# Altium schematic symbol library RF_Bluetooth.SchLib: 13 symbols
Pins are listed as number, name and electrical type; pins without a type are passive.

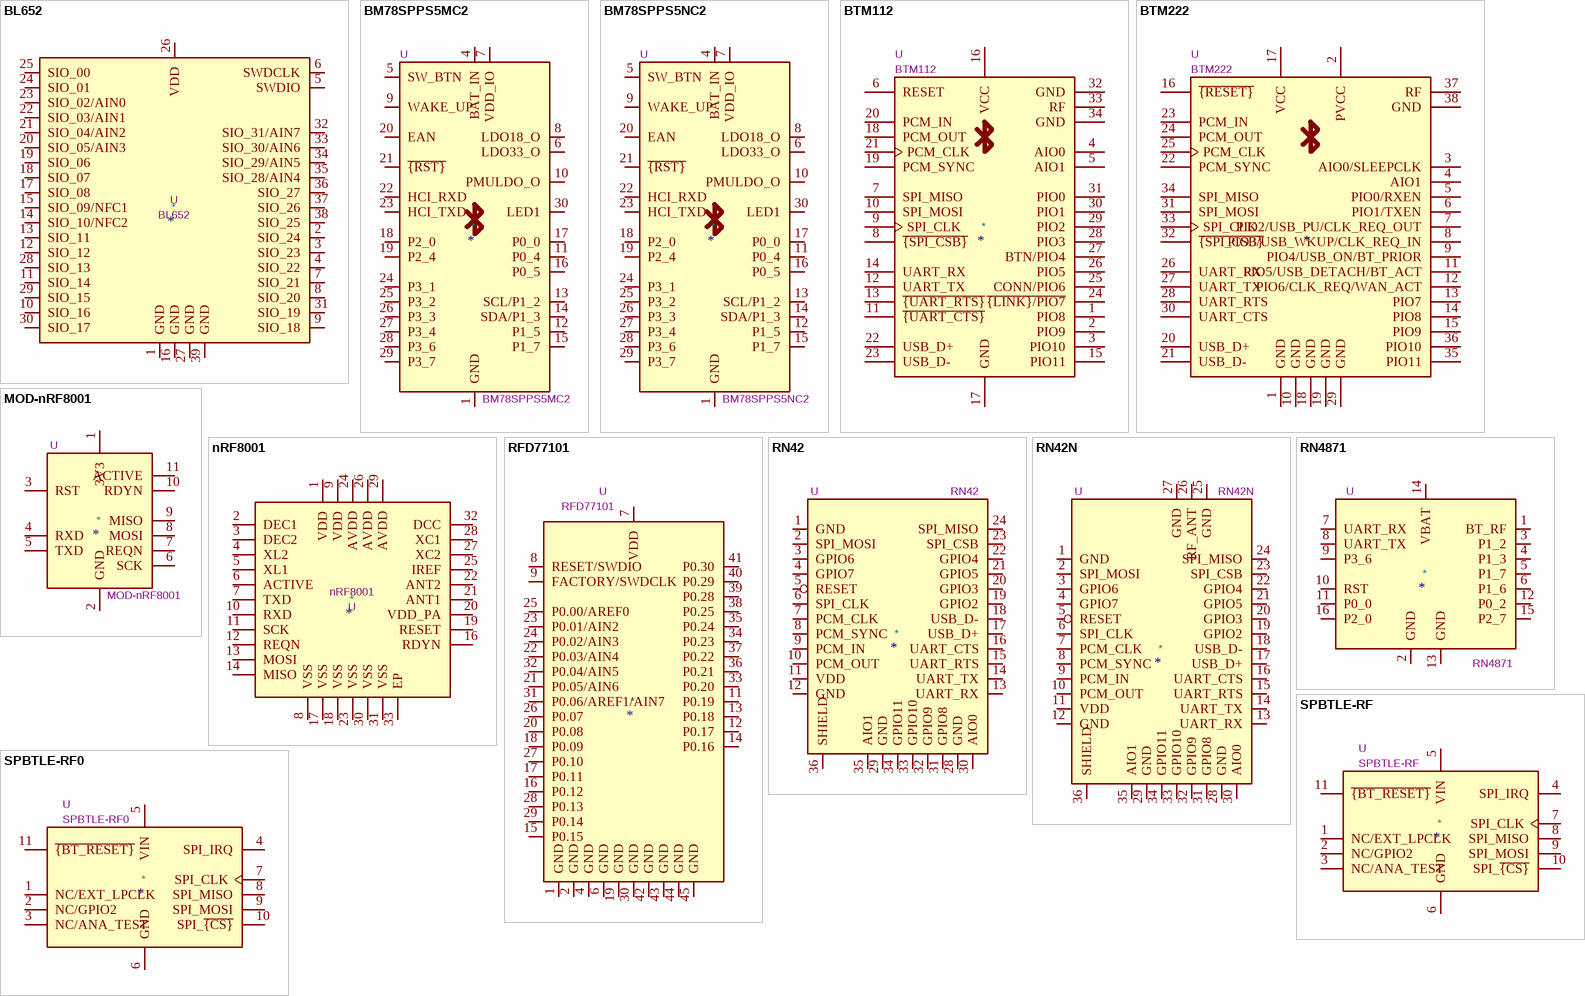
[diagram p0: symbols BL652 to SPBTLE-RF0]

## BL652
designator *  value BL652  Reference: U
ki_keywords: Bluetooth Nordic nRF52; ki_description: Bluetooth module; ki_fp_filters: Laird*BL652*; Footprint: RF_Module:Laird_BL652; Datasheet: http://cdn.lairdtech.com/home/brandworld/files/Datasheet%20-%20BL652.pdf
pins: 1 GND, 2 SIO_24, 3 SIO_23, 4 SIO_22, 5 SWDIO, 6 SWDCLK, 7 SIO_21, 8 SIO_20, 9 SIO_18, 10 SIO_16, 11 SIO_14, 12 SIO_12, 13 SIO_11, 14 SIO_10/NFC2, 15 SIO_09/NFC1, 16 GND, 17 SIO_08, 18 SIO_07, 19 SIO_06, 20 SIO_05/AIN3, 21 SIO_04/AIN2, 22 SIO_03/AIN1, 23 SIO_02/AIN0, 24 SIO_01, 25 SIO_00, 26 VDD, 27 GND, 28 SIO_13, 29 SIO_15, 30 SIO_17, 31 SIO_19, 32 SIO_31/AIN7, 33 SIO_30/AIN6, 34 SIO_29/AIN5, 35 SIO_28/AIN4, 36 SIO_27, 37 SIO_26, 38 SIO_25, 39 GND

## BM78SPPS5MC2
designator *  value BM78SPPS5MC2  Reference: U
ki_keywords: Bluetooth BLE BT GAP SPP SDP RFCOMM L2CAP GATT ATT SMP L2CAP; ki_description: Bluetooth Dual-Mode, UART, Class 2; ki_fp_filters: BM78SPPS5XC2*; Footprint: RF_Module:BM78SPPS5XC2; Datasheet: http://ww1.microchip.com/downloads/en/DeviceDoc/60001380C.pdf
pins: 1 GND, 2 GND hidden, 3 GND hidden, 4 BAT_IN, 5 SW_BTN, 6 LDO33_O, 7 VDD_IO, 8 LDO18_O, 9 WAKE_UP, 10 PMULDO_O, 11 P0_4, 12 P1_5, 13 SCL/P1_2, 14 SDA/P1_3, 15 P1_7, 16 P0_5, 17 P0_0, 18 P2_0, 19 P2_4, 20 EAN, 21 ~{{RST}}, 22 HCI_RXD, 23 HCI_TXD, 24 P3_1, 25 P3_2, 26 P3_3, 27 P3_4, 28 P3_6, 29 P3_7, 30 LED1, 31 GND hidden, 32 GND hidden, 33 GND hidden

## BM78SPPS5NC2
designator *  value BM78SPPS5NC2  Reference: U
ki_keywords: Bluetooth BLE BT GAP SPP SDP RFCOMM L2CAP GATT ATT SMP L2CAP; ki_description: Bluetooth Dual-Mode, UART, Class 2; ki_fp_filters: BM78SPPS5XC2*; Footprint: RF_Module:BM78SPPS5XC2; Datasheet: http://ww1.microchip.com/downloads/en/DeviceDoc/60001380C.pdf
pins: 1 GND, 2 GND hidden, 3 GND hidden, 4 BAT_IN, 5 SW_BTN, 6 LDO33_O, 7 VDD_IO, 8 LDO18_O, 9 WAKE_UP, 10 PMULDO_O, 11 P0_4, 12 P1_5, 13 SCL/P1_2, 14 SDA/P1_3, 15 P1_7, 16 P0_5, 17 P0_0, 18 P2_0, 19 P2_4, 20 EAN, 21 ~{{RST}}, 22 HCI_RXD, 23 HCI_TXD, 24 P3_1, 25 P3_2, 26 P3_3, 27 P3_4, 28 P3_6, 29 P3_7, 30 LED1, 31 GND hidden, 32 GND hidden, 33 GND hidden

## BTM112
designator *  value BTM112  Reference: U
ki_keywords: Bluetooth BT SPP Module; ki_description: Bluetooth SPP Module, UART, Class 2; Datasheet: https://www.sparkfun.com/datasheets/Wireless/Bluetooth/BTM112_wATcommands.pdf
pins: 1 PIO8, 2 PIO9, 3 PIO10, 4 AIO0, 5 AIO1, 6 RESET, 7 SPI_MISO, 8 ~{{SPI_CSB}}, 9 SPI_CLK, 10 SPI_MOSI, 11 ~{{UART_CTS}}, 12 UART_TX, 13 ~{{UART_RTS}}, 14 UART_RX, 15 PIO11, 16 VCC, 17 GND, 18 PCM_OUT, 19 PCM_SYNC, 20 PCM_IN, 21 PCM_CLK, 22 USB_D+, 23 USB_D-, 24 ~{{LINK}/PIO7}, 25 CONN/PIO6, 26 PIO5, 27 BTN/PIO4, 28 PIO3, 29 PIO2, 30 PIO1, 31 PIO0, 32 GND, 33 RF, 34 GND

## BTM222
designator *  value BTM222  Reference: U
ki_keywords: Bluetooth BT SPP Module; ki_description: Bluetooth SPP Module, UART, Class 1; Datasheet: https://www.tme.eu/de/Document/b90358c53cd65c9b10d2914f55812666/btm222_datasheet.pdf
pins: 1 GND, 2 PVCC, 3 AIO0/SLEEPCLK, 4 AIO1, 5 PIO0/RXEN, 6 PIO1/TXEN, 7 PIO2/USB_PU/CLK_REQ_OUT, 8 PIO3/USB_WKUP/CLK_REQ_IN, 9 PIO4/USB_ON/BT_PRIOR, 10 GND, 11 PIO5/USB_DETACH/BT_ACT, 12 PIO6/CLK_REQ/WAN_ACT, 13 PIO7, 14 PIO8, 15 PIO9, 16 ~{{RESET}}, 17 VCC, 18 GND, 19 GND, 20 USB_D+, 21 USB_D-, 22 PCM_SYNC, 23 PCM_IN, 24 PCM_OUT, 25 PCM_CLK, 26 UART_RX, 27 UART_TX, 28 UART_RTS, 29 GND, 30 UART_CTS, 31 SPI_MOSI, 32 ~{{SPI_CSB}}, 33 SPI_CLK, 34 SPI_MISO, 35 PIO11, 36 PIO10, 37 RF, 38 GND

## MOD-nRF8001
designator *  value MOD-nRF8001  Reference: U
ki_keywords: Bluetooth Low Energy nRF8001; ki_description: Bluetooth Low Energy module based on nRF8001 chipset; ki_fp_filters: MOD?nRF8001*; Footprint: RF_Module:MOD-nRF8001; Datasheet: https://www.olimex.com/Products/Modules/RF/MOD-nRF8001/
pins: 1 3V3, 2 GND, 3 RST, 4 RXD, 5 TXD, 6 SCK, 7 REQN, 8 MOSI, 9 MISO, 10 RDYN, 11 ACTIVE

## nRF8001
designator *  value nRF8001  Reference: U
ki_keywords: BLE, bluetooth; ki_description: BLE LE Connectivity IC, QFN-32; ki_fp_filters: QFN*1EP*5x5mm*P0.5mm*; Footprint: Package_DFN_QFN:QFN-32-1EP_5x5mm_P0.5mm_EP3.45x3.45mm; Datasheet: https://www.nordicsemi.com/eng/nordic/content_download/2981/38488/file/nRF8001_PS_v1.3.pdf
pins: 1 VDD, 2 DEC1, 3 DEC2, 4 XL2, 5 XL1, 6 ACTIVE, 7 TXD, 8 VSS, 9 VDD, 10 RXD, 11 SCK, 12 REQN, 13 MOSI, 14 MISO, 15 N/C hidden, 16 RDYN, 17 VSS, 18 VSS, 19 RESET, 20 VDD_PA, 21 ANT1, 22 ANT2, 23 VSS, 24 AVDD, 25 IREF, 26 AVDD, 27 XC2, 28 XC1, 29 AVDD, 30 VSS, 31 VSS, 32 DCC, 33 EP

## RFD77101
designator *  value RFD77101  Reference: U
ki_keywords: Simblee ARM Cortex-M0 Bluetooth antenna; ki_description: Simblee Bluetooth Smart Module with ARM Cortex-M0 and integrated antenna; ki_fp_filters: RFDigital*RFD77101*; Footprint: RF_Module:RFDigital_RFD77101; Datasheet: https://www.simblee.com/Simblee%20RFD77101%20Datasheet%20v1.0.pdf
pins: 1 GND, 2 GND, 3 NC hidden, 4 GND, 5 NC hidden, 6 GND, 7 VDD, 8 RESET/SWDIO, 9 FACTORY/SWDCLK, 10 NC hidden, 11 P0.19, 12 P0.17, 13 P0.18, 14 P0.16, 15 P0.15, 16 P0.12, 17 P0.11, 18 P0.09, 19 GND, 20 P0.08, 21 P0.05/AIN6, 22 P0.03/AIN4, 23 P0.01/AIN2, 24 P0.02/AIN3, 25 P0.00/AREF0, 26 P0.07, 27 P0.10, 28 P0.13, 29 P0.14, 30 GND, 31 P0.06/AREF1/AIN7, 32 P0.04/AIN5, 33 P0.20, 34 P0.23, 35 P0.24, 36 P0.21, 37 P0.22, 38 P0.25, 39 P0.28, 40 P0.29, 41 P0.30, 42 GND, 43 GND, 44 GND, 45 GND

## RN42
designator *  value RN42  Reference: U
ki_keywords: Bluetooth Module; ki_description: Class 2 Bluetooth Module with on-board antenna; ki_fp_filters: RN42*; Footprint: RF_Module:RN42; Datasheet: http://ww1.microchip.com/downloads/en/DeviceDoc/rn-42-ds-v2.32r.pdf
pins: 1 GND, 2 SPI_MOSI, 3 GPIO6, 4 GPIO7, 5 RESET, 6 SPI_CLK, 7 PCM_CLK, 8 PCM_SYNC, 9 PCM_IN, 10 PCM_OUT, 11 VDD, 12 GND, 13 UART_RX, 14 UART_TX, 15 UART_RTS, 16 UART_CTS, 17 USB_D+, 18 USB_D-, 19 GPIO2, 20 GPIO3, 21 GPIO5, 22 GPIO4, 23 SPI_CSB, 24 SPI_MISO, 28 GND, 29 GND, 30 AIO0, 31 GPIO8, 32 GPIO9, 33 GPIO10, 34 GPIO11, 35 AIO1, 36 SHIELD

## RN42N
designator *  value RN42N  Reference: U
ki_keywords: Bluetooth Module; ki_description: Class 2 Bluetooth Module without antenna; ki_fp_filters: RN42N*; Footprint: RF_Module:RN42N; Datasheet: http://ww1.microchip.com/downloads/en/DeviceDoc/rn-42-ds-v2.32r.pdf
pins: 1 GND, 2 SPI_MOSI, 3 GPIO6, 4 GPIO7, 5 RESET, 6 SPI_CLK, 7 PCM_CLK, 8 PCM_SYNC, 9 PCM_IN, 10 PCM_OUT, 11 VDD, 12 GND, 13 UART_RX, 14 UART_TX, 15 UART_RTS, 16 UART_CTS, 17 USB_D+, 18 USB_D-, 19 GPIO2, 20 GPIO3, 21 GPIO5, 22 GPIO4, 23 SPI_CSB, 24 SPI_MISO, 25 GND, 26 RF_ANT, 27 GND, 28 GND, 29 GND, 30 AIO0, 31 GPIO8, 32 GPIO9, 33 GPIO10, 34 GPIO11, 35 AIO1, 36 SHIELD

## RN4871
designator *  value RN4871  Reference: U
ki_keywords: Bluetooth Low Energy 4.2 Module; ki_fp_filters: RF*Module:Microchip*RN4871*; Footprint: RF_Module:Microchip_RN4871; Datasheet: http://ww1.microchip.com/downloads/en/DeviceDoc/50002489A.pdf; ki_description: Bluetooth Low Energy 4.2 Module
pins: 1 BT_RF, 2 GND, 3 P1_2, 4 P1_3, 5 P1_7, 6 P1_6, 7 UART_RX, 8 UART_TX, 9 P3_6, 10 RST, 11 P0_0, 12 P0_2, 13 GND, 14 VBAT, 15 P2_7, 16 P2_0

## SPBTLE-RF
designator *  value SPBTLE-RF  Reference: U
ki_keywords: BLE bluetooth module low-power; ki_description: Very Low Power network processor module for BLE v4.1, Hub capabilities; ki_fp_filters: ST*SPBTLE*; Footprint: RF_Module:ST_SPBTLE; Datasheet: http://www.st.com/resource/en/datasheet/spbtle-rf.pdf
pins: 1 NC/EXT_LPCLK, 2 NC/GPIO2, 3 NC/ANA_TEST, 4 SPI_IRQ, 5 VIN, 6 GND, 7 SPI_CLK, 8 SPI_MISO, 9 SPI_MOSI, 10 SPI_~{{CS}}, 11 ~{{BT_RESET}}

## SPBTLE-RF0
designator *  value SPBTLE-RF0  Reference: U
ki_keywords: BLE bluetooth module low-power; ki_description: Very Low Power network processor module for BLE v4.1; ki_fp_filters: ST*SPBTLE*; Footprint: RF_Module:ST_SPBTLE; Datasheet: http://www.st.com/resource/en/datasheet/spbtle-rf0.pdf
pins: 1 NC/EXT_LPCLK, 2 NC/GPIO2, 3 NC/ANA_TEST, 4 SPI_IRQ, 5 VIN, 6 GND, 7 SPI_CLK, 8 SPI_MISO, 9 SPI_MOSI, 10 SPI_~{{CS}}, 11 ~{{BT_RESET}}